# Altium footprint library SC_OKY-T5-W5N-C.PcbLib: 1 footprints
Each footprint in its own frame and in the unit in brackets; x right, y up, seen from the top. Pads: shape width x height; smd on the part's side, far side on the other; paste and mask are expansions set on the pad; w line width, h text height; cw(c..) or ccw(c..) is an arc to the next point about the centre after c.
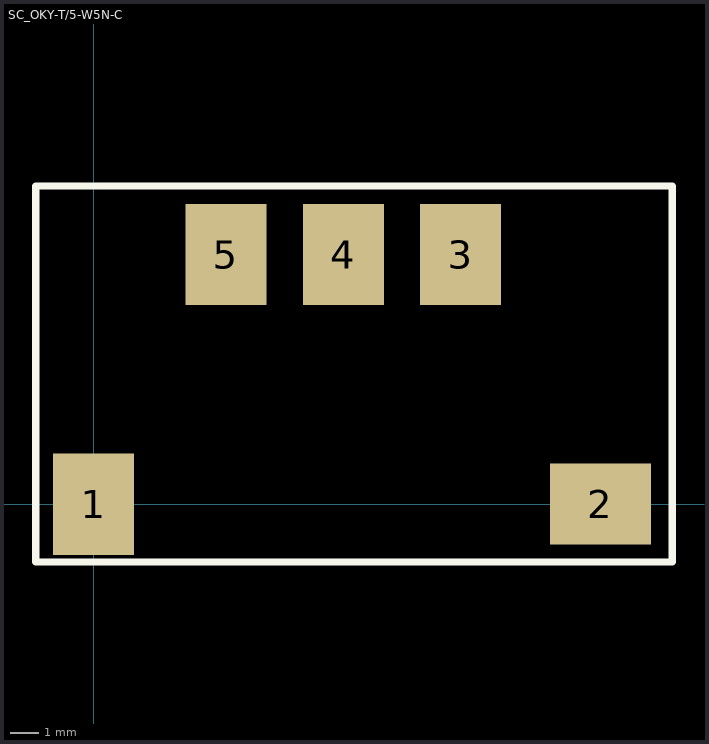
[diagram p0: the footprint, top view; thin cyan lines are the x and y axes]

## SC_OKY-T/5-W5N-C [mm]
pads (5):
  rect 2.8x3.5 smd: 1(0,0) 3(12.69,8.63) 4(8.63,8.63) 5(4.57,8.63)
  rect 3.5x2.8 smd: 2(17.52,0)
Top Overlay:
  lines w0.254: -2,-2 20,-2 20,11 -2,11 -2,-2
3D body: height 7, standoff 1.59, extent -2,-2 20,11